# Altium footprint library pag7936.PcbLib: 21 footprints (part 1 of 2)
Each footprint in its own frame and in the unit in brackets; x right, y up, seen from the top. Pads: shape width x height; smd on the part's side, far side on the other; paste and mask are expansions set on the pad; w line width, h text height; cw(c..) or ccw(c..) is an arc to the next point about the centre after c.
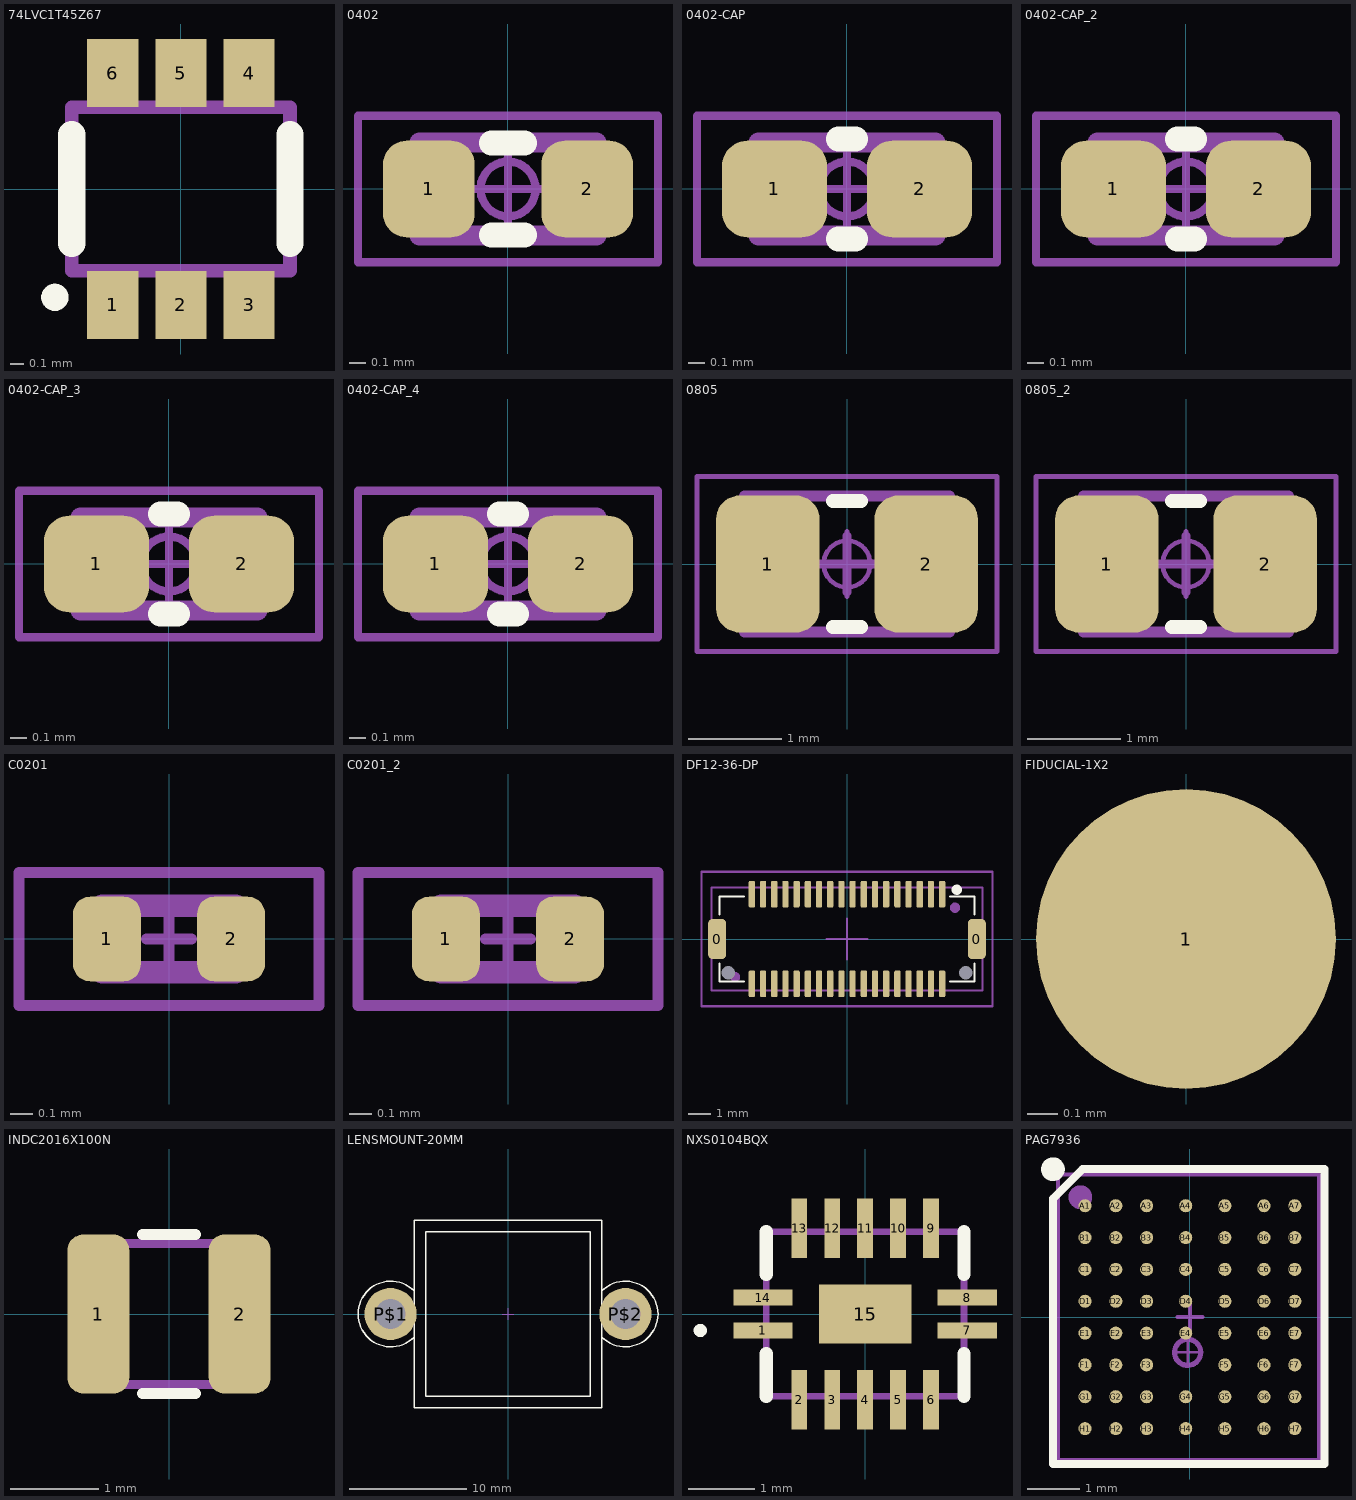
[diagram p0: the footprints below, top view; thin cyan lines are the x and y axes]

## 74LVC1T45Z67 [mm]
pads (6):
  rect 0.375x0.5 smd: 1(-0.5,-0.85) 2(0,-0.85) 3(0.5,-0.85) 4(0.5,0.85) 5(0,0.85) 6(-0.5,0.85)
Top Overlay:
  lines w0.1: -0.925,-0.844 ccw(c-0.925,-0.794) -0.925,-0.744 ccw(c-0.925,-0.794) -0.925,-0.844
  lines w0.2: -0.8,-0.4 -0.8,0.4 ; 0.8,-0.4 0.8,0.4
Mechanical 13:
  lines w0.1: -0.8,-0.6 -0.8,0.6 0.8,0.6 0.8,-0.6 -0.8,-0.6

## 0402 [mm] "Chip Resistor, 2-Leads, Body  0402 (in) 1005 (mm), IPC Medium Density"
height 0.5
pads (2):
  rrect51% 0.55x0.58 smd mask+0.05: 1(-0.475,0) 2(0.475,0)
Top Overlay:
  lines w0.15: -0.1,-0.275 0.1,-0.275 ; -0.1,0.275 0.1,0.275
Top 3D Body:
  lines w0.12: -0.53,-0.28 -0.53,0.28 0.53,0.28 0.53,-0.28 -0.53,-0.28
  text ".designator" at -0.432,-0.152 h0.3
Top Courtyard:
  circle w0.05: c0,0 r0.165
  lines w0.05: -0.22,0 0.22,0 ; 0,-0.22 0,0.22 ; -0.9,-0.44 -0.9,0.44 0.9,0.44 0.9,-0.44 -0.9,-0.44
3D body "RES-0402.stp": height 0.34, standoff 0, extent -0.5,-0.25 0.5,0.25

## 0402-CAP [mm]
pads (2):
  rrect52% 0.63x0.58 smd mask+0.05: 1(-0.435,0) 2(0.435,0)
Top Overlay:
  lines w0.15: -0.05,-0.3 0.05,-0.3 ; -0.05,0.3 0.05,0.3
Top 3D Body:
  lines w0.12: -0.53,-0.28 -0.53,0.28 0.53,0.28 0.53,-0.28 -0.53,-0.28
  text ".designator" at -0.432,-0.178 h0.3
Top Courtyard:
  circle w0.05: c0,0 r0.165
  lines w0.05: -0.22,0 0.22,0 ; 0,-0.22 0,0.22 ; -0.9,-0.44 -0.9,0.44 0.9,0.44 0.9,-0.44 -0.9,-0.44
3D body "CAP-0402.stp": height 0.5, standoff 0, extent -0.5,-0.25 0.5,0.25

## 0402-CAP_2 [mm]
pads (2):
  rrect52% 0.63x0.58 smd mask+0.05: 1(-0.435,0) 2(0.435,0)
Top Overlay:
  lines w0.15: -0.05,-0.3 0.05,-0.3 ; -0.05,0.3 0.05,0.3
Mechanical 13:
  lines w0.12: -0.53,-0.28 -0.53,0.28 0.53,0.28 0.53,-0.28 -0.53,-0.28
  text ".designator" at -0.432,-0.178 h0.3
Mechanical 15:
  circle w0.05: c0,0 r0.165
  lines w0.05: -0.22,0 0.22,0 ; 0,-0.22 0,0.22 ; -0.9,-0.44 -0.9,0.44 0.9,0.44 0.9,-0.44 -0.9,-0.44
3D body "CAP-0402.stp": height 0.5, standoff 0, extent -0.5,-0.25 0.5,0.25

## 0402-CAP_3 [mm]
pads (2):
  rrect52% 0.63x0.58 smd mask+0.05: 1(-0.435,0) 2(0.435,0)
Top Overlay:
  lines w0.15: -0.05,-0.3 0.05,-0.3 ; -0.05,0.3 0.05,0.3
Mechanical 13:
  lines w0.12: -0.53,-0.28 0.53,-0.28 0.53,0.28 -0.53,0.28 -0.53,-0.28
  text ".designator" at -0.432,-0.178 h0.3
Mechanical 15:
  circle w0.05: c0,0 r0.165
  lines w0.05: -0.22,0 0.22,0 ; 0,-0.22 0,0.22 ; -0.9,-0.44 0.9,-0.44 0.9,0.44 -0.9,0.44 -0.9,-0.44
3D body "CAP-0402.stp": height 0.5, standoff 0, extent -0.5,-0.25 0.5,0.25

## 0402-CAP_4 [mm]
pads (2):
  rrect52% 0.63x0.58 smd mask+0.05: 1(-0.435,0) 2(0.435,0)
Top Overlay:
  lines w0.15: -0.05,-0.3 0.05,-0.3 ; -0.05,0.3 0.05,0.3
Top 3D Body:
  lines w0.12: -0.53,-0.28 0.53,-0.28 0.53,0.28 -0.53,0.28 -0.53,-0.28
  text ".designator" at -0.432,-0.178 h0.3
Top Courtyard:
  circle w0.05: c0,0 r0.165
  lines w0.05: -0.22,0 0.22,0 ; 0,-0.22 0,0.22 ; -0.9,-0.44 0.9,-0.44 0.9,0.44 -0.9,0.44 -0.9,-0.44
3D body "CAP-0402.stp": height 0.5, standoff 0, extent -0.5,-0.25 0.5,0.25

## 0805 [mm] "Chip Capacitor, Body 0805 imperial, 2.0x1.2mm, IPC Medium Density"
height 0.7
pads (2):
  rrect45% 1.11x1.47 smd: 1(-0.85,0) 2(0.85,0)
Top Overlay:
  lines w0.15: -0.15,-0.675 0.15,-0.675 ; -0.15,0.675 0.15,0.675
Mechanical 13:
  lines w0.1: -0.3,0 0,0 ; 0,-0.3 0,0 ; 0,0.3 0,0 ; 0.3,0 0,0
  lines w0.12: -1.1,-0.73 1.1,-0.73 1.1,0.73 -1.1,0.73 -1.1,-0.73
  text ".designator" at -1,-0.625 h0.3
Mechanical 15:
  circle w0.05: c0,0 r0.25
  lines w0.05: -0.35,0 0.35,0 ; 0,-0.35 0,0.35 ; -1.61,-0.94 1.61,-0.94 1.61,0.94 -1.61,0.94 -1.61,-0.94
3D body "CAP-0805.stp": height 1.25, standoff 0, extent -1,-0.625 1,0.625

## 0805_2 [mm]
pads (2):
  rrect45% 1.11x1.47 smd mask+0.05: 1(-0.85,0) 2(0.85,0)
Top Overlay:
  lines w0.15: -0.15,-0.675 0.15,-0.675 ; -0.15,0.675 0.15,0.675
Top 3D Body:
  lines w0.1: -0.3,0 0,0 ; 0,-0.3 0,0 ; 0,0.3 0,0 ; 0.3,0 0,0
  lines w0.12: -1.1,-0.73 1.1,-0.73 1.1,0.73 -1.1,0.73 -1.1,-0.73
  text ".designator" at -1,-0.625 h0.3
Top Courtyard:
  circle w0.05: c0,0 r0.25
  lines w0.05: -0.35,0 0.35,0 ; 0,-0.35 0,0.35 ; -1.61,-0.94 1.61,-0.94 1.61,0.94 -1.61,0.94 -1.61,-0.94
3D body "CAP-0805.stp": height 1.25, standoff 0, extent -1,-0.625 1,0.625

## C0201 [mil] "0201 IPC-7351"
height 10.24
pads (2):
  rrect50% 12x15 smd mask+1.97: 1(-11,0) 2(11,0)
Mechanical 13:
  lines w3.94: -11.81,-5.91 -11.81,5.91 11.81,5.91 11.81,-5.91 -11.81,-5.91
  text ".designator" at -7.87,-2.95 h15.75
Mechanical 15:
  lines w1.97: -3.94,0 0,0 ; 0,-3.94 0,0 ; 0,3.94 0,0 ; 3.94,0 0,0 ; -26.57,-11.81 -26.57,11.81 26.57,11.81 26.57,-11.81 -26.57,-11.81
3D body "C0201_035.step": height 13.78, standoff 0, extent -11.81,-5.88 11.81,5.92

## C0201_2 [mil]
pads (2):
  rrect50% 12x15 smd mask+1.97: 1(-11,0) 2(11,0)
Mechanical 13:
  lines w3.94: -11.81,-5.91 11.81,-5.91 11.81,5.91 -11.81,5.91 -11.81,-5.91
  text ".designator" at -7.87,-2.95 h15.75
Mechanical 15:
  lines w1.97: -3.94,0 0,0 ; 0,-3.94 0,0 ; 0,3.94 0,0 ; 3.94,0 0,0 ; -26.57,-11.81 26.57,-11.81 26.57,11.81 -26.57,11.81 -26.57,-11.81
3D body "C0201_035.step": height 13.78, standoff 0, extent -11.81,-5.88 11.81,5.92

## DF12-36-DP [mm] "36 Position Connector Receptacle, Center Strip Contacts Surface Mount Gold"
pads (40):
  rrect50% 0.8x1.8 smd mask+0.05: 0(-5.8,0) 0(5.8,0)
  rrect50% 0.28x1.2 smd mask+0.05: 1(4.25,2) 2(4.25,-2) 3(3.75,2) 4(3.75,-2) 5(3.25,2) 6(3.25,-2) 7(2.75,2) 8(2.75,-2) 9(2.25,2) 10(2.25,-2) 11(1.75,2) 12(1.75,-2) 13(1.25,2) 14(1.25,-2) 15(0.75,2) 16(0.75,-2) 17(0.25,2) 18(0.25,-2) 19(-0.25,2) 20(-0.25,-2) 21(-0.75,2) 22(-0.75,-2) 23(-1.25,2) 24(-1.25,-2) 25(-1.75,2) 26(-1.75,-2) 27(-2.25,2) 28(-2.25,-2) 29(-2.75,2) 30(-2.75,-2) 31(-3.25,2) 32(-3.25,-2) 33(-3.75,2) 34(-3.75,-2) 35(-4.25,2) 36(-4.25,-2)
  round 0 hole 0.6 unplated: MH1(-5.3,-1.5) MH2(5.3,-1.5)
Top Overlay:
  circle w0.254: c4.9,2.2 r0.1
  lines w0.1: -5.7,-1.1 -5.7,-1.9 -4.6,-1.9 ; -5.7,1.1 -5.7,1.9 -4.6,1.9 ; 4.6,-1.9 5.7,-1.9 5.7,-1.1 ; 4.6,1.9 5.7,1.9 5.7,1.1
Mechanical 13:
  circle w0.254: c-5,-1.7 r0.1
  lines w0.1: -0.9,0 0,0 ; 0,-0.9 0,0 ; 0,0.9 0,0 ; 0.9,0 0,0 ; -6.05,-2.3 -6.05,2.3 6.05,2.3 6.05,-2.3 -6.05,-2.3
  text ".designator" at -0.9,-3 h0.5
Mechanical 15:
  circle w0.254: c4.826,1.397 r0.1
  lines w0.1: -0.9,0 0,0 ; 0,-0.9 0,0 ; 0,0.9 0,0 ; 0.9,0 0,0 ; -6.5,-3 6.5,-3 6.5,3 -6.5,3 -6.5,-3
3D body "DF12NB_3.0_-36DP-0.5V_51_.step": height 2.3, standoff 0, extent -6.05,-2.3 6.05,2.3

## FIDUCIAL-1X2 [mm] "FIDUCIAL-1X2"
pads (1):
  rrect100% 1x1 smd paste+0: 1(0,0)

## INDC2016X100N [mm] "INDC2016X100N"
pads (2):
  rrect50% 0.7x1.8 smd: 1(-0.8,0) 2(0.8,0)
Top Overlay:
  lines w0.127: -0.3,-0.9 0.3,-0.9 ; -0.3,0.9 0.3,0.9
Top 3D Body:
  lines w0.1: -1,-0.8 -1,0.8 1,0.8 1,-0.8 -1,-0.8
  text ".designator" at -1,-0.95 h0.64
3D body: height 1, standoff 0, extent -1,-0.8 1,0.8

## LENSMOUNT-20MM [mm] "LENSMOUNT-20MM"
pads (2):
  round 4.445 / inner round 0 / far side round 4.445 hole 2.54: P$1(-10,0) P$2(10,0)
Top Overlay:
  lines w0.127: -8,-1.977 cw(c-9.977,0) -8,1.977 ; -8,-1.977 -8,1.977 ; -8,-1.977 -8,-8 8,-8 8,-1.977 ; -8,1.977 -8,8 8,8 8,1.977 ; 8,-1.977 ccw(c9.977,0) 8,1.977 ; 8,-1.977 8,1.977 ; -7,-7 -7,7 7,7 7,-7 -7,-7
Mechanical 13:
  lines w0.1: -0.508,0 0,0 ; 0,-0.508 0,0 ; 0,0.508 0,0 ; 0.508,0 0,0

## NXS0104BQX [mm]
pads (15):
  rect 0.9x0.24 smd: 1(-1.55,-0.25) 7(1.55,-0.25) 8(1.55,0.25) 14(-1.55,0.25)
  rect 0.24x0.9 smd: 2(-1,-1.3) 3(-0.5,-1.3) 4(0,-1.3) 5(0.5,-1.3) 6(1,-1.3) 9(1,1.3) 10(0.5,1.3) 11(0,1.3) 12(-0.5,1.3) 13(-1,1.3)
  rect 1.4x0.9 smd: 15(0,0)
Top Overlay:
  lines w0.1: -2.55,-0.25 ccw(c-2.5,-0.25) -2.45,-0.25 ccw(c-2.5,-0.25) -2.55,-0.25
  lines w0.2: -1.5,-1.25 -1.5,-0.6 ; -1.5,0.6 -1.5,1.25 ; 1.5,-1.25 1.5,-0.6 ; 1.5,0.6 1.5,1.25
Mechanical 13:
  lines w0.1: -1.5,-1.25 1.5,-1.25 1.5,1.25 -1.5,1.25 -1.5,-1.25
3D body "NXS0104BQX.stp": height 0.85, standoff 0, extent -1.498,-1.25 1.504,1.252

## PAG7936 [mm]
pads (55):
  round 0.25 smd mask+0.051: A1(-2.01,2.135) A2(-1.42,2.135) A3(-0.83,2.135) A4(-0.08,2.135) A5(0.67,2.135) A6(1.42,2.135) A7(2.01,2.135) B1(-2.01,1.525) B2(-1.42,1.525) B3(-0.83,1.525) B4(-0.08,1.525) B5(0.67,1.525) B6(1.42,1.525) B7(2.01,1.525) C1(-2.01,0.915) C2(-1.42,0.915) C3(-0.83,0.915) C4(-0.08,0.915) C5(0.67,0.915) C6(1.42,0.915) C7(2.01,0.915) D1(-2.01,0.305) D2(-1.42,0.305) D3(-0.83,0.305) D4(-0.08,0.305) D5(0.67,0.305) D6(1.42,0.305) D7(2.01,0.305) E1(-2.01,-0.305) E2(-1.42,-0.305) E3(-0.83,-0.305) E4(-0.08,-0.305) E5(0.67,-0.305) E6(1.42,-0.305) E7(2.01,-0.305) F1(-2.01,-0.915) F2(-1.42,-0.915) F3(-0.83,-0.915) F5(0.67,-0.915) F6(1.42,-0.915) F7(2.01,-0.915) G1(-2.01,-1.525) G2(-1.42,-1.525) G3(-0.83,-1.525) G4(-0.08,-1.525) G5(0.67,-1.525) G6(1.42,-1.525) G7(2.01,-1.525) H1(-2.01,-2.135) H2(-1.42,-2.135) H3(-0.83,-2.135) H4(-0.08,-2.135) H5(0.67,-2.135) H6(1.42,-2.135) H7(2.01,-2.135)
Top Overlay:
  circle w0.254: c-2.625,2.835 r0.1
  lines w0.152: -2.625,-2.814 2.575,-2.814 2.575,2.835 -2.061,2.835 -2.625,2.271 -2.625,-2.814
Top 3D Body:
  circle w0.1: c-0.044,-0.675 r0.25
  circle w0.254: c-2.1,2.3 r0.1
  lines w0.05: -0.297,-0.675 -0.043,-0.675 ; -0.044,-0.928 -0.044,-0.675 -0.043,-0.675 ; -0.043,-0.421 -0.043,-0.675 ; 0.211,-0.675 -0.043,-0.675
  lines w0.076: -0.237,0 0,0 ; 0,-0.262 0,0 ; 0,0.267 0,0 ; 0.245,0 0,0 ; -2.525,-2.741 2.475,-2.741 2.475,2.735 -2.525,2.735 -2.525,-2.741
  text "chip center" at 0,-0.036 h0.25
  text ".designator" at -2.2,-2.75 h0.64
  text "optical center" at 0.35,-1.39 h0.25
3D body: height 0.8, standoff 0, extent -2.525,-2.741 2.475,2.735